# EAGLE library part A2000-EXPANSION (library Amiga)
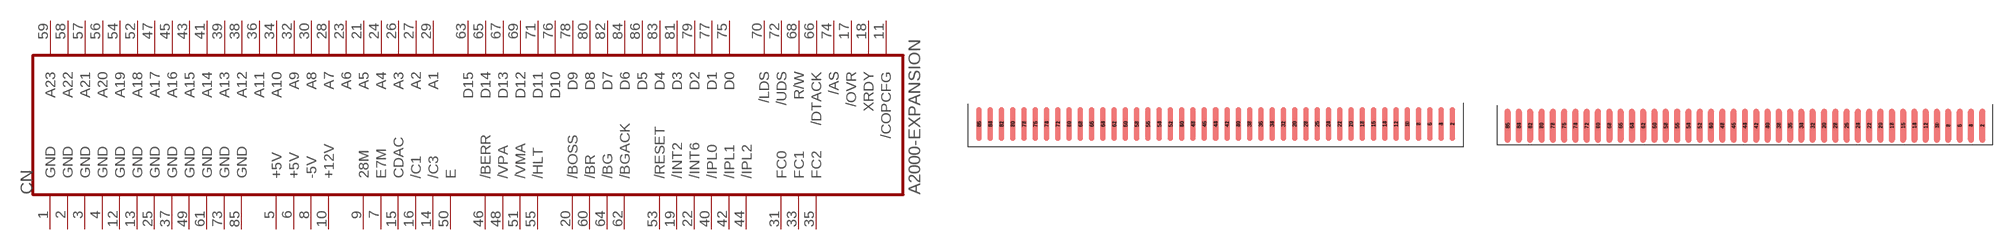
[diagram p38: symbol with the pads of KONT_43_R; footprints KONT_43_R, LKONT_43_R]

Designator prefix CN

## A2000-EXPANSION  [KONT_43_R]
1  GND  pwr
2  GND  pwr
3  GND  pwr
4  GND  pwr
5  +5V  pwr
6  +5V  pwr
7  E7M
8  -5V  pwr
9  28M
10  +12V  pwr
11  /COPCFG
12  GND  pwr
13  GND  pwr
14  /C3
15  CDAC
16  /C1
17  /OVR
18  XRDY
19  /INT2
20  /BOSS
21  A5
22  /INT6
23  A6
24  A4
25  GND  pwr
26  A3
27  A2
28  A7
29  A1
30  A8
31  FC0
32  A9
33  FC1
34  A10
35  FC2
36  A11
37  GND  pwr
38  A12
39  A13
40  /IPL0
41  A14
42  /IPL1
43  A15
44  /IPL2
45  A16
46  /BERR
47  A17
48  /VPA
49  GND  pwr
50  E
51  /VMA
52  A18
53  /RESET
54  A19
55  /HLT
56  A20
57  A21
58  A22
59  A23
60  /BR
61  GND  pwr
62  /BGACK
63  D15
64  /BG
65  D14
66  /DTACK
67  D13
68  R/W
69  D12
70  /LDS
71  D11
72  /UDS
73  GND  pwr
74  /AS
75  D0
76  D10
77  D1
78  D9
79  D2
80  D8
81  D3
82  D7
83  D4
84  D6
85  GND  pwr
86  D5

## A2000-EXPANSION-SMALL  [LKONT_43_R]
Pads as for KONT_43_R

## Footprint KONT_43_R (pad centres in mm)
smd 1.27 x 7.62 bottom: 1 54.61,0; 3 52.07,0; 5 49.53,0; 7 46.99,0; 9 44.45,0; 11 41.91,0; 13 39.37,0; 15 36.83,0; 17 34.29,0; 19 31.75,0; 21 29.21,0; 23 26.67,0; 25 24.13,0; 27 21.59,0; 29 19.05,0; 31 16.51,0; 33 13.97,0; 35 11.43,0; 37 8.89,0; 39 6.35,0; 41 3.81,0; 43 1.27,0; 45 -1.27,0; 47 -3.81,0; 49 -6.35,0; 51 -8.89,0; 53 -11.43,0; 55 -13.97,0; 57 -16.51,0; 59 -19.05,0; 61 -21.59,0; 63 -24.13,0; 65 -26.67,0; 67 -29.21,0; 69 -31.75,0; 71 -34.29,0; 73 -36.83,0; 75 -39.37,0; 77 -41.91,0; 79 -44.45,0; 81 -46.99,0; 83 -49.53,0; 85 -52.07,0
smd 1.27 x 7.62: 2 54.61,0; 4 52.07,0; 6 49.53,0; 8 46.99,0; 10 44.45,0; 12 41.91,0; 14 39.37,0; 16 36.83,0; 18 34.29,0; 20 31.75,0; 22 29.21,0; 24 26.67,0; 26 24.13,0; 28 21.59,0; 30 19.05,0; 32 16.51,0; 34 13.97,0; 36 11.43,0; 38 8.89,0; 40 6.35,0; 42 3.81,0; 44 1.27,0; 46 -1.27,0; 48 -3.81,0; 50 -6.35,0; 52 -8.89,0; 54 -11.43,0; 56 -13.97,0; 58 -16.51,0; 60 -19.05,0; 62 -21.59,0; 64 -24.13,0; 66 -26.67,0; 68 -29.21,0; 70 -31.75,0; 72 -34.29,0; 74 -36.83,0; 76 -39.37,0; 78 -41.91,0; 80 -44.45,0; 82 -46.99,0; 84 -49.53,0; 86 -52.07,0

## Footprint LKONT_43_R (pad centres in mm)
smd 1.27 x 7.62 bottom: 1 57.15,0; 3 54.61,0; 5 52.07,0; 7 49.53,0; 9 46.99,0; 11 44.45,0; 13 41.91,0; 15 39.37,0; 17 36.83,0; 19 34.29,0; 21 31.75,0; 23 29.21,0; 25 26.67,0; 27 24.13,0; 29 21.59,0; 31 19.05,0; 33 16.51,0; 35 13.97,0; 37 11.43,0; 39 8.89,0; 41 6.35,0; 43 3.81,0; 45 1.27,0; 47 -1.27,0; 49 -3.81,0; 51 -6.35,0; 53 -8.89,0; 55 -11.43,0; 57 -13.97,0; 59 -16.51,0; 61 -19.05,0; 63 -21.59,0; 65 -24.13,0; 67 -26.67,0; 69 -29.21,0; 71 -31.75,0; 73 -34.29,0; 75 -36.83,0; 77 -39.37,0; 79 -41.91,0; 81 -44.45,0; 83 -46.99,0; 85 -49.53,0
smd 1.27 x 7.62: 2 57.15,0; 4 54.61,0; 6 52.07,0; 8 49.53,0; 10 46.99,0; 12 44.45,0; 14 41.91,0; 16 39.37,0; 18 36.83,0; 20 34.29,0; 22 31.75,0; 24 29.21,0; 26 26.67,0; 28 24.13,0; 30 21.59,0; 32 19.05,0; 34 16.51,0; 36 13.97,0; 38 11.43,0; 40 8.89,0; 42 6.35,0; 44 3.81,0; 46 1.27,0; 48 -1.27,0; 50 -3.81,0; 52 -6.35,0; 54 -8.89,0; 56 -11.43,0; 58 -13.97,0; 60 -16.51,0; 62 -19.05,0; 64 -21.59,0; 66 -24.13,0; 68 -26.67,0; 70 -29.21,0; 72 -31.75,0; 74 -34.29,0; 76 -36.83,0; 78 -39.37,0; 80 -41.91,0; 82 -44.45,0; 84 -46.99,0; 86 -49.53,0